# EAGLE library part RASPI_HEADER (library hamstackHAT)
raspberrypi gpio header
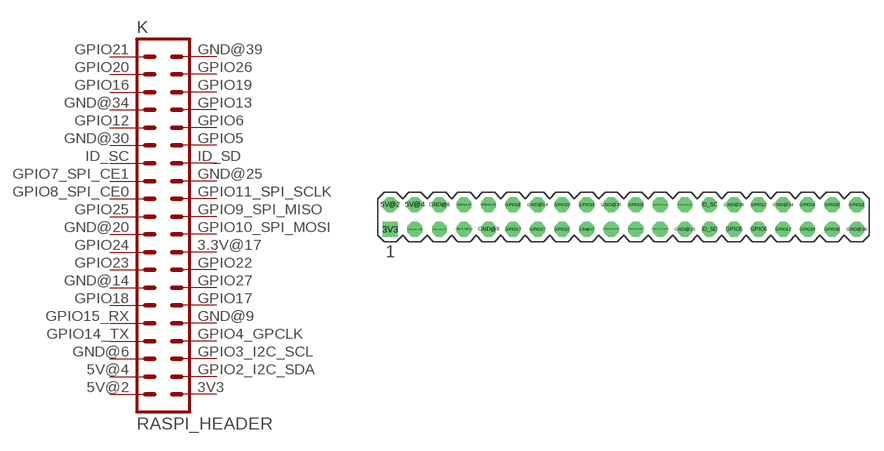
[diagram p0: symbol with the pads of RASPI_HEADER; footprint RASPI_HEADER]

Designator prefix K

## RASPI_HEADER  [RASPI_HEADER]
3.3V@17  17  pas
3V3  1  pas
5V@2  2  pas
5V@4  4  pas
GND@6  6  pas
GND@9  9  pas
GND@14  14  pas
GND@20  20  pas
GND@25  25  pas
GND@30  30  pas
GND@34  34  pas
GND@39  39  pas
GPIO2_I2C_SDA  3  pas
GPIO3_I2C_SCL  5  pas
GPIO4_GPCLK  7  pas
GPIO5  29  pas
GPIO6  31  pas
GPIO7_SPI_CE1  26  pas
GPIO8_SPI_CE0  24  pas
GPIO9_SPI_MISO  21  pas
GPIO10_SPI_MOSI  19  pas
GPIO11_SPI_SCLK  23  pas
GPIO12  32  pas
GPIO13  33  pas
GPIO14_TX  8  pas
GPIO15_RX  10  pas
GPIO16  36  pas
GPIO17  11  pas
GPIO18  12  pas
GPIO19  35  pas
GPIO20  38  pas
GPIO21  GPIO21  pas
GPIO22  15  pas
GPIO23  16  pas
GPIO24  18  pas
GPIO25  22  pas
GPIO26  37  pas
GPIO27  13  pas
ID_SC  28  pas
ID_SD  27  pas

## Footprint RASPI_HEADER (pad centres in mm)
drill 1.016 octagon: 3.3V@17 -3.81,-1.27; 5V@2 -24.13,1.27; 5V@4 -21.59,1.27; GND@6 -19.05,1.27; GND@9 -13.97,-1.27; GND@14 -8.89,1.27; GND@20 -1.27,1.27; GND@25 6.35,-1.27; GND@30 11.43,1.27; GND@34 16.51,1.27; GND@39 24.13,-1.27; GPIO2_I2C_SDA -21.59,-1.27; GPIO3_I2C_SCL -19.05,-1.27; GPIO4_GPCLK -16.51,-1.27; GPIO5 11.43,-1.27; GPIO6 13.97,-1.27; GPIO7_SPI_CE1 6.35,1.27; GPIO8_SPI_CE0 3.81,1.27; GPIO9_SPI_MISO 1.27,-1.27; GPIO10_SPI_MOSI -1.27,-1.27; GPIO11_SPI_SCLK 3.81,-1.27; GPIO12 13.97,1.27; GPIO13 16.51,-1.27; GPIO14_TX -16.51,1.27; GPIO15_RX -13.97,1.27; GPIO16 19.05,1.27; GPIO17 -11.43,-1.27; GPIO18 -11.43,1.27; GPIO19 19.05,-1.27; GPIO20 21.59,1.27; GPIO21 24.13,1.27; GPIO22 -6.35,-1.27; GPIO23 -6.35,1.27; GPIO24 -3.81,1.27; GPIO25 1.27,1.27; GPIO26 21.59,-1.27; GPIO27 -8.89,-1.27; ID_SC 8.89,1.27; ID_SD 8.89,-1.27
drill 1.016 square: 3V3 -24.13,-1.27